# Altium footprint library LM2575-3P3BU.PcbLib: 3 footprints
Each footprint in its own frame and in the unit in brackets; x right, y up, seen from the top. Pads: shape width x height; smd on the part's side, far side on the other; paste and mask are expansions set on the pad; w line width, h text height; cw(c..) or ccw(c..) is an arc to the next point about the centre after c.
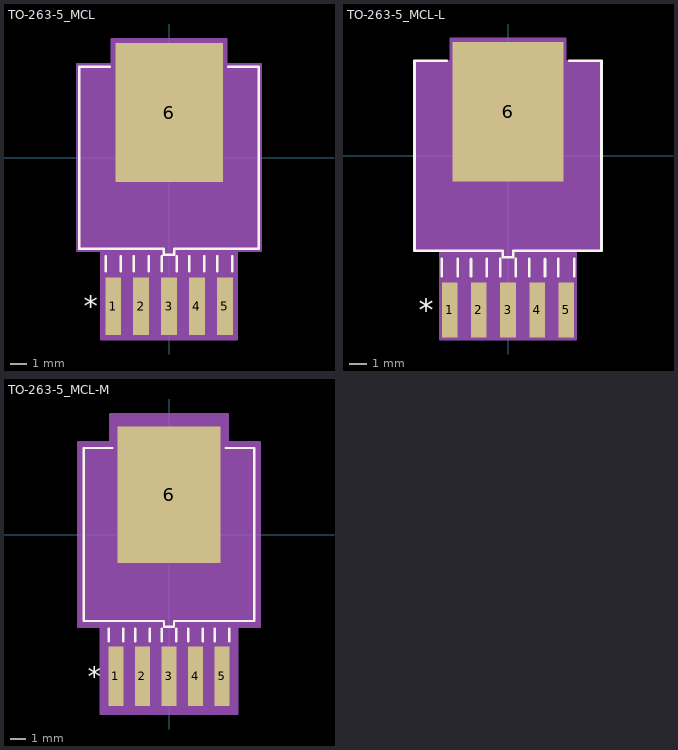
[diagram p0: the footprints below, top view; thin cyan lines are the x and y axes]

## TO-263-5_MCL [mil]
pads (6):
  rect 38x138 smd paste+0 mask+0: 1(-134,-356.5) 2(-67,-356.5) 3(0,-356.5) 4(67,-356.5) 5(134,-356.5)
  rect 258x333 smd paste+0 mask+0: 6(0,108)
Top Overlay:
  lines w6: -152,-273.5 -152,-237.5 ; -142.1,218.5 -215,218.5 -215,-218.5 -12.5,-218.5 -12.5,-233.5 12.5,-233.5 12.5,-218.5 215,-218.5 215,218.5 142.1,218.5 ; -116,-273.5 -116,-237.5 ; -85,-273.5 -85,-237.5 ; -49,-273.5 -49,-237.5 ; -18,-273.5 -18,-237.5 ; 18,-273.5 18,-237.5 ; 49,-273.5 49,-237.5 ; 85,-273.5 85,-237.5 ; 116,-273.5 116,-237.5 ; 152,-273.5 152,-237.5
  text "*" at -205,-381.5 h50
Mechanical 13:
  lines w1: -210,-213.5 210,-213.5 210,213.5 -210,213.5 -210,-213.5 ; -152,-411.5 -152,-213.5 -116,-213.5 -116,-411.5 -152,-411.5 ; -85,-411.5 -85,-213.5 -49,-213.5 -49,-411.5 -85,-411.5 ; -18,-411.5 -18,-213.5 18,-213.5 18,-411.5 -18,-411.5 ; -7.5,-228.5 -7.5,-213.5 7.5,-213.5 7.5,-228.5 -7.5,-228.5 ; 49,-411.5 49,-213.5 85,-213.5 85,-411.5 49,-411.5 ; 116,-411.5 116,-213.5 152,-213.5 152,-411.5 116,-411.5
  text "*" at -146.5,-228.5 h50
Mechanical 15:
  region: -220,-223.5 -220,223.5 -138,223.5 -138,284.5 138,284.5 138,223.5 220,223.5 220,-223.5 163,-223.5 163,-435.5 -163,-435.5 -163,-223.5
  lines w6: -220,-223.5 -220,223.5 -138,223.5 -138,284.5 138,284.5 138,223.5 220,223.5 220,-223.5 163,-223.5 163,-435.5 -163,-435.5 -163,-223.5 -220,-223.5
3D body "TO-263-5_MCL.step": height 181.1, standoff -2.01, extent -210,-411.5 210,253.5

## TO-263-5_MCL-L [mil]
pads (6):
  rect 36x126 smd paste+0 mask+0: 1(-134,-354.5) 2(-67,-354.5) 3(0,-354.5) 4(67,-354.5) 5(134,-354.5)
  rect 256x321 smd paste+0 mask+0: 6(0,101)
Top Overlay:
  lines w6: -152,-277.5 -152,-237.5 ; -141.1,218.5 -215,218.5 -215,-218.5 -12.5,-218.5 -12.5,-233.5 12.5,-233.5 12.5,-218.5 215,-218.5 215,218.5 141.1,218.5 ; -116,-277.5 -116,-237.5 ; -85,-277.5 -85,-237.5 ; -49,-277.5 -49,-237.5 ; -18,-277.5 -18,-237.5 ; 18,-277.5 18,-237.5 ; 49,-277.5 49,-237.5 ; 85,-277.5 85,-237.5 ; 116,-277.5 116,-237.5 ; 152,-277.5 152,-237.5
  text "*" at -205,-379.5 h50
Mechanical 13:
  lines w1: -210,-213.5 210,-213.5 210,213.5 -210,213.5 -210,-213.5 ; -152,-411.5 -152,-213.5 -116,-213.5 -116,-411.5 -152,-411.5 ; -85,-411.5 -85,-213.5 -49,-213.5 -49,-411.5 -85,-411.5 ; -18,-411.5 -18,-213.5 18,-213.5 18,-411.5 -18,-411.5 ; -7.5,-228.5 -7.5,-213.5 7.5,-213.5 7.5,-228.5 -7.5,-228.5 ; 49,-411.5 49,-213.5 85,-213.5 85,-411.5 49,-411.5 ; 116,-411.5 116,-213.5 152,-213.5 152,-411.5 116,-411.5
  text "*" at -146.5,-228.5 h50
Mechanical 15:
  region: -214,-217.5 -214,217.5 -132,217.5 -132,268.5 132,268.5 132,217.5 214,217.5 214,-217.5 156,-217.5 156,-421.5 -156,-421.5 -156,-217.5
  lines w6: -214,-217.5 -214,217.5 -132,217.5 -132,268.5 132,268.5 132,217.5 214,217.5 214,-217.5 156,-217.5 156,-421.5 -156,-421.5 -156,-217.5 -214,-217.5
3D body "TO-263-5_MCL.step": height 181.1, standoff -2.01, extent -210,-411.5 210,253.5

## TO-263-5_MCL-M [mil]
pads (6):
  rect 38x150 smd paste+0 mask+0: 1(-134,-358.5) 2(-67,-358.5) 3(0,-358.5) 4(67,-358.5) 5(134,-358.5)
  rect 260x345 smd paste+0 mask+0: 6(0,101)
Top Overlay:
  lines w6: -152,-269.5 -152,-237.5 ; -143.1,218.5 -215,218.5 -215,-218.5 -12.5,-218.5 -12.5,-233.5 12.5,-233.5 12.5,-218.5 215,-218.5 215,218.5 143.1,218.5 ; -116,-269.5 -116,-237.5 ; -85,-269.5 -85,-237.5 ; -49,-269.5 -49,-237.5 ; -18,-269.5 -18,-237.5 ; 18,-269.5 18,-237.5 ; 49,-269.5 49,-237.5 ; 85,-269.5 85,-237.5 ; 116,-269.5 116,-237.5 ; 152,-269.5 152,-237.5
  text "*" at -205,-383.5 h50
Mechanical 13:
  lines w1: -210,-213.5 210,-213.5 210,213.5 -210,213.5 -210,-213.5 ; -152,-411.5 -152,-213.5 -116,-213.5 -116,-411.5 -152,-411.5 ; -85,-411.5 -85,-213.5 -49,-213.5 -49,-411.5 -85,-411.5 ; -18,-411.5 -18,-213.5 18,-213.5 18,-411.5 -18,-411.5 ; -7.5,-228.5 -7.5,-213.5 7.5,-213.5 7.5,-228.5 -7.5,-228.5 ; 49,-411.5 49,-213.5 85,-213.5 85,-411.5 49,-411.5 ; 116,-411.5 116,-213.5 152,-213.5 152,-411.5 116,-411.5
  text "*" at -146.5,-228.5 h50
Mechanical 15:
  region: -230,-233.5 -230,233.5 -148,233.5 -148,304.5 148,304.5 148,233.5 230,233.5 230,-233.5 173,-233.5 173,-453.5 -173,-453.5 -173,-233.5
  lines w6: -230,-233.5 -230,233.5 -148,233.5 -148,304.5 148,304.5 148,233.5 230,233.5 230,-233.5 173,-233.5 173,-453.5 -173,-453.5 -173,-233.5 -230,-233.5
3D body "TO-263-5_MCL.step": height 181.1, standoff -2.01, extent -210,-411.5 210,253.5